# Altium footprint library SparkFun-Aesthetics.PCBLIB: 126 footprints (part 1 of 8)
Each footprint in its own frame and in the unit in brackets; x right, y up, seen from the top. Pads: shape width x height; smd on the part's side, far side on the other; paste and mask are expansions set on the pad; w line width, h text height; cw(c..) or ccw(c..) is an arc to the next point about the centre after c.
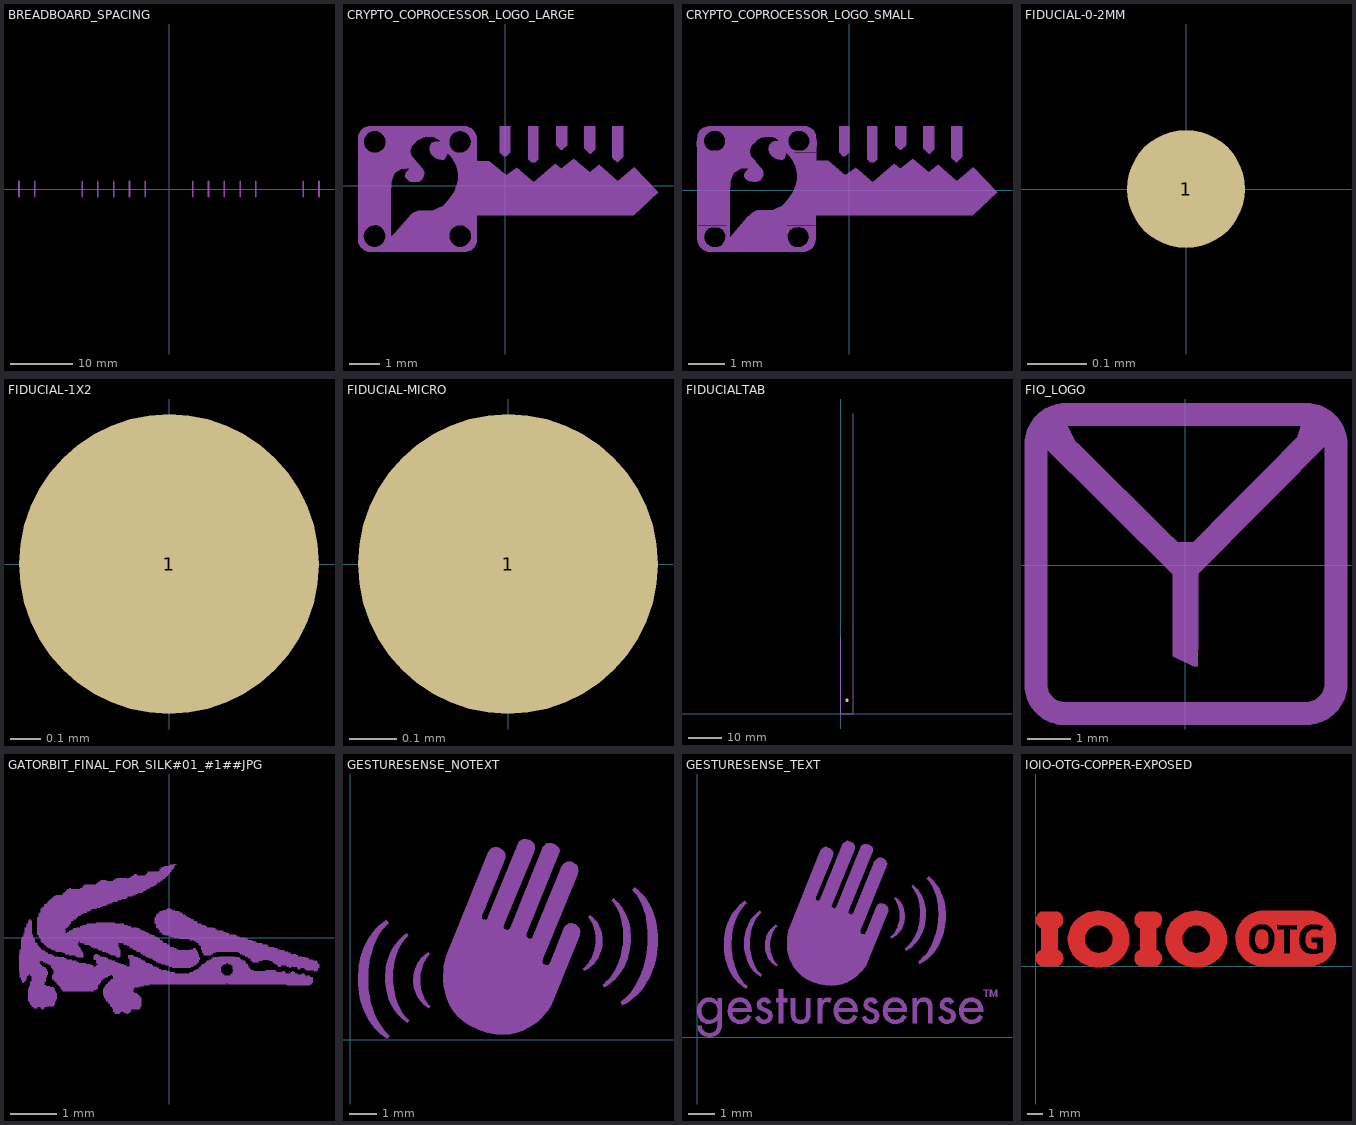
[diagram p0: the footprints below, top view; thin cyan lines are the x and y axes]

## BLANK [mil]

## BREADBOARD_SPACING [mil]
tDocu:
  lines w10: -950,-50 -950,50 ; -850,-50 -850,50 ; -550,-50 -550,50 ; -450,-50 -450,50 ; -350,-50 -350,50 ; -250,-50 -250,50 ; -150,-50 -150,50 ; 150,-50 150,50 ; 250,-50 250,50 ; 350,-50 350,50 ; 450,-50 450,50 ; 550,-50 550,50 ; 850,-50 850,50 ; 950,-50 950,50
  text "Breadboard row spacing:" at 0,75 h42.5

## CREATIVE_COMMONS [mil]
tDocu:
  text "Released under the Creative Commons Attribution Share-Alike 4.0 License" at -800,200 h59.5
  text "https://creativecommons.org/licenses/by-sa/4.0/" at 0,100 h59.5
  text "Designed by:" at 450,0 h59.5

## CRYPTO_COPROCESSOR_LOGO_LARGE [mil]
tPlace:
  drawing of 13 lines, arcs and shapes, not listed

## CRYPTO_COPROCESSOR_LOGO_SMALL [mil]
tPlace:
  drawing of 13 lines, arcs and shapes, not listed

## DUMMY [mil]

## FIDUCIAL-0-2MM [mil]
pads (1):
  rrect100% 7.87x7.87 smd paste+0 mask+0: 1(0,0)
Top Solder:
  circle w6: c0,0 r2.36

## FIDUCIAL-1X2 [mm]
pads (1):
  rrect100% 1x1 smd paste+0: 1(0,0)

## FIDUCIAL-MICRO [mil]
pads (1):
  rrect100% 25x25 smd paste+0: 1(0,0)

## FIDUCIALTAB [mm]
pads (1):
  rrect100% 1x1 smd: P$2(1.905,4.064)
Dimension:
  lines w0.203: 0,22.86 0,0 3.81,0 3.81,21.59 ; 3.81,2.54 3.81,21.59 ; 3.81,88.9 3.81,21.59

## FIO_LOGO [mil]
bPlace:
  region: 11.4,-76 11.4,-92 7,-92 -11.5,-82.9 -11.5,-75.9
  lines w21: -136,-107 ccw(c-110.01,-109.01) -112,-135 ; -136,-106 -136,112 cw(c-109.01,110.01) -107,137 ; -114,-135 -112,-135 ; -106,137 112,137 cw(c110.01,110.01) 137,108 137,-111 ; 137,-110 cw(c110.01,-108.01) 108,-135 -112,-135
  lines w22: -121,130 -109,106 ; 111,110 118,132
  lines w24: -128,124 1,-4 ; -7,9 5,9 ; 0,-75 0,6 ; 0,-3 128,126

## FOUR_LAYER_WARNING [mil]
tDocu:
  text "THIS IS A FOUR-LAYER BOARD!" at 0,0 h42.5

## GATORBIT_FINAL_FOR_SILK#01_#1##JPG [mil]
tPlace:
  drawing of 400 lines, arcs and shapes, not listed

## GESTURESENSE_NOTEXT [mil]
tPlace:
  drawing of 7 lines, arcs and shapes, not listed

## GESTURESENSE_TEXT [mil]
tPlace:
  drawing of 36 lines, arcs and shapes, not listed

## IOIO-OTG-COPPER-EXPOSED [mil]
Top:
  region: 154 vertices and 0 holes, not listed, extent 0.07,0.08 68.47,136.57
  region: 158.5,102.8 163.03,102.4 163.9,102.32 165.62,102.03 167.31,101.57 168.93,100.93 169.72,100.55 170.83,99.97 173.03,98.76 175.2,97.5 177.34,96.19 178.39,95.51 179.33,94.86 181.12,93.45 182.77,91.88 184.27,90.16 184.96,89.25 185.8,88.07 187.39,85.65 188.88,83.17 190.26,80.62 190.91,79.33 191.55,77.89 192.54,74.9 193.11,71.81 193.27,68.66 193.19,67.09 193.09,65.98 192.82,63.78 192.48,61.58 192.05,59.4 191.81,58.31 191.48,57.04 190.59,54.57 189.42,52.21 187.98,50.01 187.17,48.98 186.37,48.04 184.75,46.17 183.1,44.34 181.41,42.54 180.55,41.65 179.56,40.69 177.44,38.95 175.14,37.46 172.69,36.22 171.42,35.71 170.32,35.31 168.08,34.58 165.83,33.92 163.55,33.36 162.4,33.11 161.81,33 160.63,32.81 159.44,32.68 158.24,32.61 157.64,32.6 157.64,-2.8 166.93,-2.8 175.32,-1.42 178.36,-0.92 184.32,0.67 190.1,2.82 195.64,5.52 198.27,7.13 200.85,8.71 205.8,12.18 210.53,15.95 215.02,20.01 217.13,22.17 219.1,24.18 222.6,28.58 225.64,33.31 228.19,38.32 229.21,40.94 230.1,43.24 231.65,47.94 232.97,52.7 234.04,57.52 234.45,59.96 234.86,62.36 235.2,67.22 235.06,72.09 234.44,76.92 233.9,79.29 233.39,81.52 232.18,85.92 230.78,90.26 229.2,94.55 228.31,96.65 227.25,99.16 224.63,103.94 221.54,108.43 217.99,112.57 216.02,114.45 214.04,116.34 209.92,119.93 205.64,123.34 201.22,126.56 198.94,128.07 196.92,129.41 192.65,131.69 188.18,133.57 183.55,135.01 181.18,135.51 179.64,135.84 176.55,136.44 173.45,137.01 170.34,137.52 168.78,137.76 167.86,137.9 166.01,138.15 164.16,138.39 162.31,138.6 161.38,138.7 161.02,138.74 160.3,138.79 159.58,138.81 158.86,138.8 158.5,138.78
  region: 158.43,102.8 152.32,102.4 151.45,102.32 149.73,102.03 148.04,101.57 146.42,100.93 145.63,100.55 144.52,99.97 142.32,98.76 140.16,97.5 138.02,96.19 136.97,95.51 136.03,94.86 134.24,93.45 132.58,91.88 131.08,90.16 130.39,89.25 129.55,88.07 127.96,85.65 126.47,83.17 125.1,80.62 124.45,79.33 123.81,77.89 122.82,74.9 122.25,71.81 122.09,68.66 122.17,67.09 122.27,65.98 122.54,63.78 122.88,61.58 123.3,59.4 123.54,58.31 123.87,57.04 124.76,54.56 125.94,52.21 127.38,50.01 128.19,48.98 128.99,48.04 130.6,46.17 132.26,44.34 133.94,42.54 134.8,41.65 135.79,40.69 137.91,38.95 140.21,37.46 142.67,36.22 143.94,35.71 145.04,35.31 147.27,34.58 149.53,33.93 151.8,33.36 152.95,33.11 153.54,33 154.73,32.81 155.92,32.68 157.12,32.61 157.72,32.6 157.72,-2.8 148.43,-2.8 140.04,-1.42 137,-0.92 131.04,0.67 125.26,2.82 119.72,5.52 117.09,7.13 114.51,8.71 109.56,12.18 104.83,15.95 100.34,20.01 98.23,22.17 96.26,24.18 92.76,28.58 89.71,33.31 87.16,38.32 86.14,40.94 85.25,43.24 83.7,47.94 82.39,52.7 81.32,57.52 80.91,59.96 80.5,62.36 80.16,67.22 80.3,72.09 80.92,76.92 81.46,79.29 81.97,81.52 83.18,85.92 84.58,90.26 86.16,94.55 87.05,96.65 88.11,99.16 90.72,103.94 93.82,108.43 97.36,112.57 99.33,114.45 101.31,116.34 105.44,119.93 109.72,123.34 114.14,126.56 116.42,128.07 118.44,129.41 122.71,131.69 127.18,133.57 131.8,135.01 134.17,135.51 135.71,135.84 138.8,136.44 141.9,137.01 145.01,137.52 146.57,137.76 147.49,137.9 149.34,138.15 151.2,138.39 153.05,138.6 153.98,138.7 154.53,138.75 155.65,138.82 156.76,138.84 157.87,138.81 158.43,138.78
  region: 157 vertices and 0 holes, not listed, extent 248.11,0.08 316.5,136.57
  region: 404.17,102.8 408.7,102.4 409.57,102.32 411.29,102.03 412.98,101.57 414.6,100.93 415.39,100.55 416.5,99.97 418.7,98.76 420.87,97.5 423.01,96.19 424.06,95.51 425,94.86 426.79,93.45 428.44,91.88 429.94,90.16 430.63,89.25 431.47,88.07 433.06,85.65 434.55,83.17 435.92,80.62 436.57,79.33 437.21,77.89 438.2,74.9 438.78,71.81 438.94,68.66 438.86,67.09 438.76,65.98 438.49,63.78 438.15,61.58 437.72,59.4 437.48,58.31 437.15,57.04 436.26,54.56 435.08,52.21 433.64,50.01 432.83,48.98 432.03,48.04 430.42,46.17 428.76,44.34 427.08,42.54 426.22,41.65 425.23,40.69 423.11,38.95 420.81,37.46 418.36,36.22 417.09,35.71 415.99,35.31 413.75,34.58 411.5,33.92 409.22,33.36 408.07,33.11 407.48,33 406.3,32.81 405.11,32.68 403.91,32.61 403.31,32.6 403.31,-2.8 412.6,-2.8 420.98,-1.42 424.02,-0.92 429.98,0.66 435.76,2.82 441.31,5.52 443.94,7.13 446.52,8.71 451.47,12.18 456.2,15.95 460.69,20.01 462.8,22.17 464.77,24.18 468.27,28.58 471.31,33.31 473.86,38.32 474.88,40.94 475.77,43.24 477.32,47.94 478.64,52.7 479.71,57.52 480.12,59.96 480.53,62.36 480.87,67.22 480.73,72.09 480.11,76.92 479.57,79.29 479.06,81.52 477.85,85.92 476.45,90.26 474.87,94.55 473.98,96.65 472.92,99.16 470.3,103.94 467.21,108.43 463.66,112.57 461.69,114.45 459.71,116.34 455.59,119.93 451.31,123.34 446.89,126.56 444.61,128.07 442.59,129.41 438.32,131.69 433.85,133.57 429.22,135.01 426.85,135.51 425.31,135.84 422.22,136.44 419.12,137.01 416.01,137.52 414.45,137.76 413.53,137.9 411.68,138.15 409.83,138.39 407.98,138.6 407.05,138.7 406.69,138.74 405.97,138.79 405.25,138.81 404.53,138.8 404.17,138.78
  region: 404.09,102.8 397.99,102.4 397.12,102.32 395.4,102.03 393.71,101.57 392.09,100.93 391.3,100.55 390.19,99.97 387.99,98.76 385.83,97.5 383.69,96.19 382.64,95.51 381.7,94.86 379.91,93.45 378.25,91.88 376.75,90.16 376.06,89.25 375.22,88.07 373.63,85.65 372.14,83.17 370.77,80.62 370.12,79.33 369.48,77.89 368.49,74.9 367.91,71.81 367.75,68.66 367.83,67.09 367.93,65.98 368.2,63.78 368.54,61.58 368.97,59.4 369.21,58.31 369.54,57.04 370.43,54.56 371.61,52.21 373.05,50.01 373.86,48.98 374.66,48.04 376.27,46.17 377.93,44.34 379.61,42.54 380.47,41.65 381.46,40.69 383.58,38.95 385.88,37.46 388.34,36.22 389.61,35.71 390.71,35.31 392.94,34.58 395.2,33.93 397.47,33.36 398.62,33.11 399.21,33 400.4,32.81 401.59,32.68 402.79,32.61 403.39,32.6 403.39,-2.8 394.09,-2.8 385.71,-1.42 382.67,-0.92 376.71,0.67 370.93,2.82 365.39,5.52 362.76,7.13 360.18,8.71 355.23,12.18 350.5,15.95 346.01,20.01 343.9,22.17 341.93,24.18 338.43,28.58 335.38,33.31 332.83,38.32 331.81,40.94 330.92,43.24 329.37,47.94 328.05,52.7 326.98,57.52 326.57,59.96 326.16,62.36 325.83,67.22 325.97,72.09 326.59,76.92 327.13,79.29 327.64,81.52 328.85,85.92 330.25,90.26 331.83,94.55 332.72,96.65 333.78,99.16 336.39,103.94 339.49,108.43 343.03,112.57 345,114.45 346.98,116.34 351.11,119.93 355.39,123.34 359.81,126.56 362.09,128.07 364.11,129.41 368.38,131.69 372.85,133.57 377.47,135.01 379.84,135.51 381.38,135.84 384.47,136.44 387.57,137.01 390.68,137.52 392.24,137.76 393.16,137.9 395.01,138.15 396.87,138.39 398.72,138.6 399.65,138.7 400.2,138.75 401.31,138.82 402.42,138.84 403.54,138.81 404.09,138.78
  region: 156 vertices and 0 holes, not listed, extent 502.92,0 568.5,138.62
  region: 568.9,91.34 563.39,91.34 560.24,89.84 559.74,89.6 558.81,88.99 557.98,88.25 557.26,87.4 556.97,86.93 556.58,86.31 555.85,85.05 555.16,83.77 554.51,82.47 554.21,81.81 553.97,81.28 553.57,80.18 553.26,79.05 553.05,77.9 552.99,77.32 552.93,76.8 552.8,75.76 552.64,74.73 552.46,73.7 552.36,73.19 552.24,73.19 552.24,62.4 553.15,57.28 555.24,51.18 558.7,46.73 558.83,46.57 559.11,46.28 559.43,46.02 559.78,45.8 559.96,45.71 560.51,45.44 561.62,44.96 562.75,44.53 563.91,44.14 564.49,43.98 564.66,43.93 565,43.86 565.35,43.82 565.7,43.81 565.87,43.82 566.59,43.85 568.02,43.9 569.46,43.93 570.89,43.94 571.61,43.94 572.48,44.02 574.18,44.46 575.78,45.16 577.26,46.11 577.91,46.69 577.97,46.74 578.09,46.85 578.21,46.95 578.33,47.04 578.39,47.09 578.85,47.4 579.67,48.15 580.36,49.02 580.91,49.99 581.1,50.51 581.33,51 581.78,51.98 582.23,52.96 582.66,53.95 582.87,54.45 583.04,54.9 583.33,55.81 583.57,56.74 583.75,57.68 583.82,58.15 584.11,60.3 584.45,64.63 584.54,68.97 584.37,73.31 584.17,75.47 584.04,76.81 583.5,79.45 582.67,82.01 581.56,84.47 580.87,85.63 580.33,86.55 578.93,88.16 577.26,89.49 575.38,90.5 574.37,90.83 574.13,90.91 573.64,91.04 573.15,91.16 572.65,91.26 572.4,91.3 568.9,91.3
  region: 631.89,31.1 623.62,31.1 623.62,90.94 605.51,90.94 605.51,104.33 632.68,104.33 632.68,138.98 568.5,138.98 568.5,105.51 575.2,105.12 581.1,103.54 581.84,103.32 583.29,102.77 584.68,102.08 585.99,101.25 586.61,100.79 587.21,100.31 588.41,99.34 589.59,98.36 590.76,97.36 591.34,96.85 591.73,96.5 592.47,95.75 593.16,94.96 593.79,94.13 594.09,93.7 594.81,92.59 596.14,90.3 597.33,87.93 598.36,85.49 598.82,84.25 599.14,83.29 599.67,81.35 600.06,79.38 600.32,77.38 600.39,76.38 600.42,75.92 600.54,75.02 600.74,74.13 601.01,73.25 601.18,72.83 601.18,62.2 600,54.72 599.69,53.08 598.78,49.87 597.48,46.79 595.83,43.89 594.88,42.52 594.31,41.77 593.1,40.32 591.82,38.94 590.47,37.63 589.76,37.01 588.23,35.78 584.91,33.68 581.32,32.08 577.53,31.03 575.59,30.71 574.71,30.61 572.94,30.45 571.16,30.35 569.39,30.31 568.5,30.32 568.5,0 631.89,0
  region: 694.09,30.32 694.09,0 631.89,0 631.89,31.1 639.76,31.1 639.76,90.94 657.87,90.94 657.87,104.33 632.68,104.33 632.68,138.98 692.91,138.98 692.91,105.12 688.43,104.21 686.55,103.77 682.9,102.54 679.42,100.86 676.19,98.76 674.68,97.56 673.31,96.34 670.74,93.7 668.45,90.83 666.44,87.75 665.55,86.14 664.93,84.89 663.86,82.3 663.03,79.63 662.44,76.89 662.24,75.51 662.05,73.79 661.79,70.34 661.68,66.88 661.73,63.42 661.81,61.69 661.9,60.51 662.21,58.16 662.7,55.84 663.35,53.56 663.74,52.44 664.23,51.14 665.29,48.56 666.46,46.04 667.75,43.57 668.43,42.36 669.18,41.14 670.95,38.9 673.06,36.97 675.45,35.4 676.73,34.76 681.57,32.48 687.95,30.75
  region: 157 vertices and 0 holes, not listed, extent 678.53,0 754.76,138.98
Top Solder:
  drawing of 11 lines, arcs and shapes, not listed